# EAGLE library part CL320 (library atmel-samd)
Supertex CL320 constant current LED driver
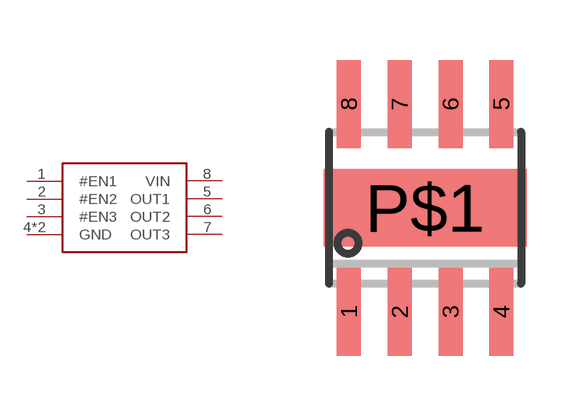
[diagram p4: symbol with the pads of SOIC8PAD; footprint SOIC8PAD]

Designator prefix U

## CL320  [SOIC8PAD]
1  #EN1  in
2  #EN2  in
3  #EN3  in
4  GND  pwr
5  OUT1  out
6  OUT2  out
7  OUT3  out
8  VIN  pwr
P$1  GND  pwr

## Footprint SOIC8PAD (pad centres in mm)
Small Outline IC - 150mil Wide
smd 0.6 x 2.2: 1 -1.905,-2.6; 2 -0.635,-2.6; 3 0.635,-2.6; 4 1.905,-2.6; 5 1.905,2.6; 6 0.635,2.6; 7 -0.635,2.6; 8 -1.905,2.6
smd 5.08 x 1.93: P$1 0,0